# Altium schematic symbol library MOC3021SM.SchLib: 1 symbol
Pins are listed as number, name and electrical type; pins without a type are passive.

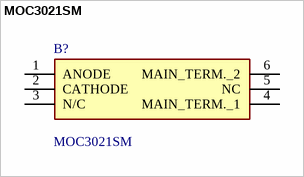
[diagram p0: symbol MOC3021SM]

## MOC3021SM
designator B?
6-Pin DIP Random-Phase Triac Driver Output Optocoupler (250/400 V Peak); Manufacturer_Name: onsemi; Geometry.Height: 4.8mm; Mouser Part Number: 512-MOC3021SM; Mouser Price/Stock: https://www.mouser.co.uk/ProductDetail/onsemi-Fairchild/MOC3021SM?qs=ZS9em9a1DI4mnS4oQ%2FdKAA%3D%3D; Manufacturer_Part_Number: MOC3021SM; Datasheet Link: https://www.onsemi.com/pub/Collateral/MOC3023M-D.PDF
footprint SOP254P916X480-6N
pins: 1 ANODE, 2 CATHODE, 3 N/C, 4 MAIN_TERM._1, 5 NC, 6 MAIN_TERM._2